# Altium schematic symbol library ICs.SchLib: 86 symbols (part 2 of 2)
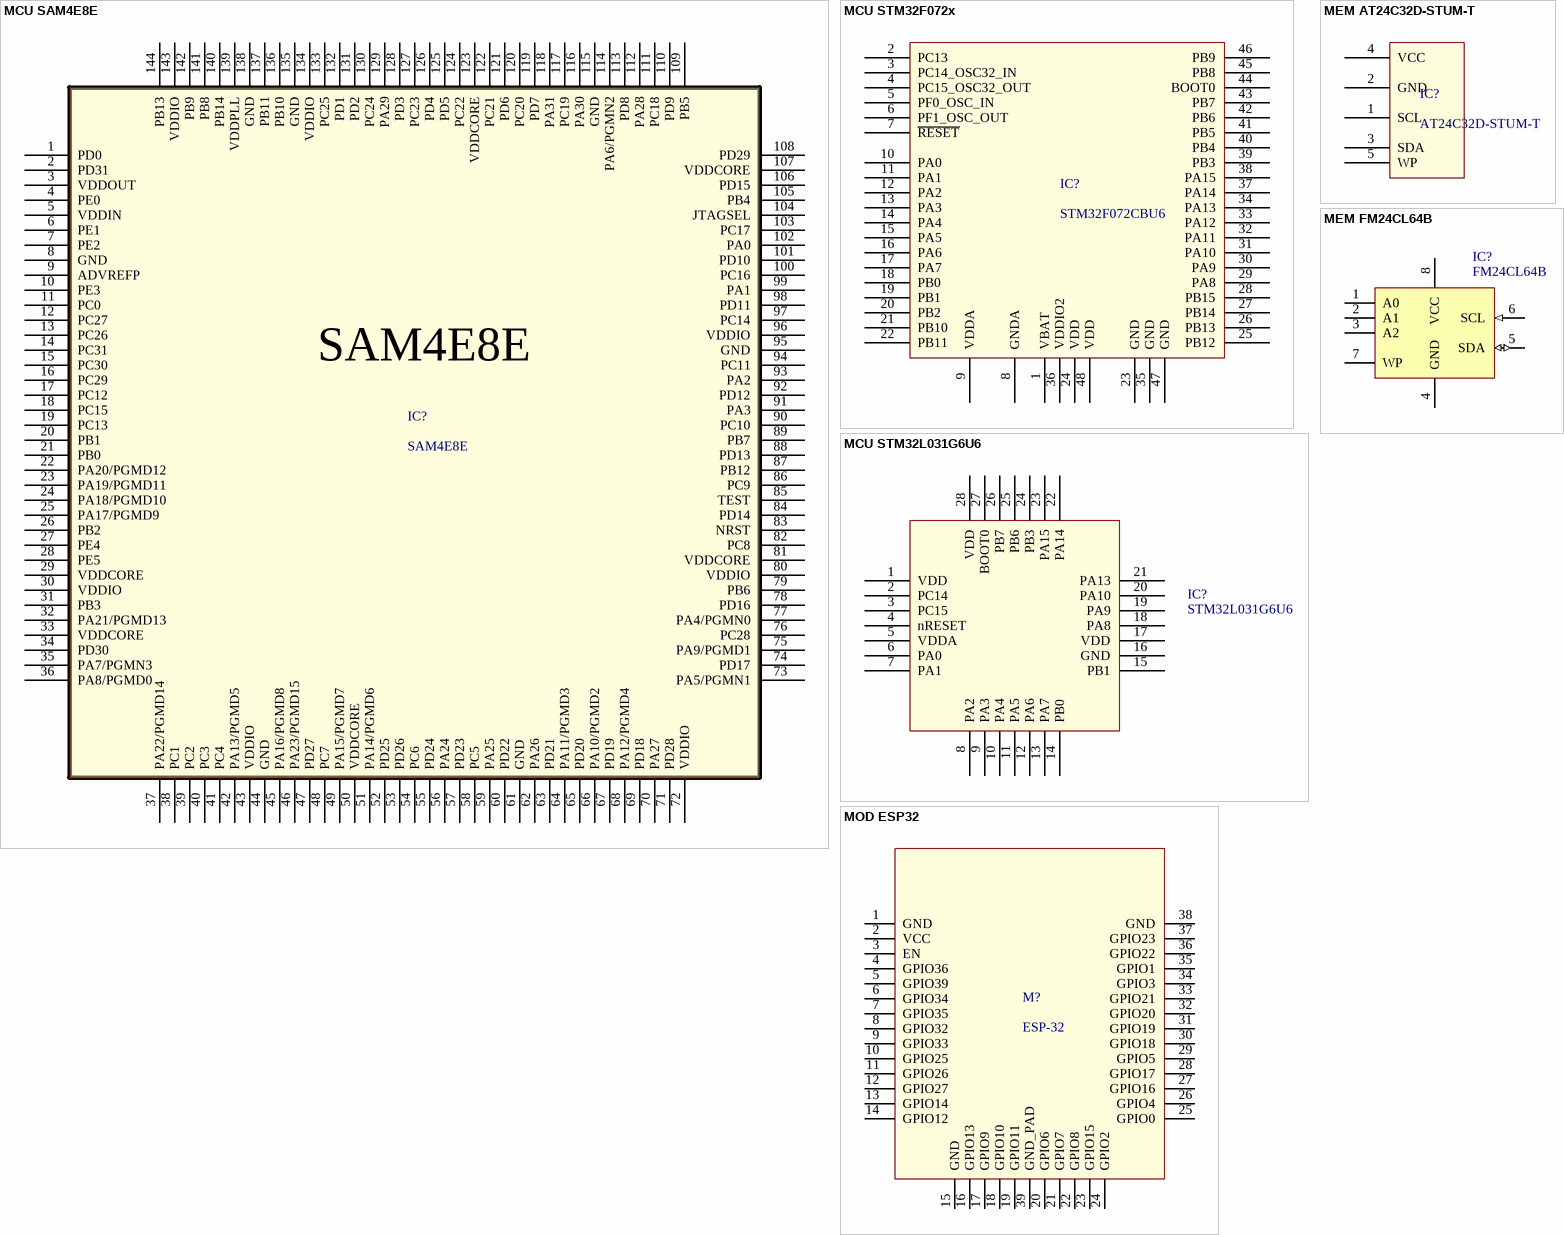
[diagram p8: symbols MCU SAM4E8E to MOD ESP32]

## MCU STM32F072x
designator IC?, comment STM32F072CBU6
MCU 32 Bit Microcontroller, USB Line, ARM Cortex-M0, 48 MHz, 128 KB, 16 KB, 48 Pins, UFQFPN; Manufacturer: STMicroelectronics; Manufacturer Part Number: STM32F072CBU6; Created by: Nils Minor; Value: STM 32 F 072 CBU6
footprint PQFN50P695X695X55_HS-49N (PQFN, 48-Leads, Body 6,95x6,95mm, Pitch 0,50mm, Thermal Pad 5,60x5,60mm, IPC Medium Density)
pins: 1 VBAT, 2 PC13, 3 PC14_OSC32_IN, 4 PC15_OSC32_OUT, 5 PF0_OSC_IN, 6 PF1_OSC_OUT, 7 ~{RESET}, 8 GNDA, 9 VDDA, 10 PA0, 11 PA1, 12 PA2, 13 PA3, 14 PA4, 15 PA5, 16 PA6, 17 PA7, 18 PB0, 19 PB1, 20 PB2, 21 PB10, 22 PB11, 23 GND, 24 VDD, 25 PB12, 26 PB13, 27 PB14, 28 PB15, 29 PA8, 30 PA9, 31 PA10, 32 PA11, 33 PA12, 34 PA13, 35 GND, 36 VDDIO2, 37 PA14, 38 PA15, 39 PB3, 40 PB4, 41 PB5, 42 PB6, 43 PB7, 44 BOOT0, 45 PB8, 46 PB9, 47 GND, 48 VDD

## MCU STM32L031G6U6
designator IC?, comment STM32L031G6U6
MCU Ultra-low-power 32-bit ARM®-based Cortex®-M0+ Microcontroller; Manufacturer: STMicroelectronics; Manufacturer Part Number: STM32L031G6U6; Created by: Nils Minor; Value: STM 32 L 031 G6U6
footprint QFN50P400X400X55-28N (QFN, 28-Leads, Body 4,00x4,00mm, Pitch 0,50mm, IPC Medium Density)
pins: 1 VDD, 2 PC14, 3 PC15, 4 nRESET, 5 VDDA, 6 PA0, 7 PA1, 8 PA2, 9 PA3, 10 PA4, 11 PA5, 12 PA6, 13 PA7, 14 PB0, 15 PB1, 16 GND, 17 VDD, 18 PA8, 19 PA9, 20 PA10, 21 PA13, 22 PA14, 23 PA15, 24 PB3, 25 PB6, 26 PB7, 27 BOOT0, 28 VDD

## MEM AT24C32D-STUM-T
designator IC?, comment AT24C32D-STUM-T
EEPROM I2C-Compatible (2-Wire) Serial 32-Kbit (4,096 x 8); Manufacturer: Microchip / Atmel; Created by: Nils Minor; Manufacturer Part Number: AT24C32D-STUM-T; Value: AT 24 C 32 D-STUM
footprint SOT23-5
pins: 1 SCL, 2 GND, 3 SDA, 4 VCC, 5 WP

## MEM FM24CL64B
designator IC?, comment FM24CL64B
F-RAM 64Kb Serial I2C 3V FRAM; Manufacturer: Cypress; Manufacturer Part Number: FM24CL64B-G; Value: FM 24 CL 64 B-G; Created by: Nils Minor
footprint SO8
pins: 1 A0, 2 A1, 3 A2, 4 GND (power), 5 SDA (io), 6 SCL (in), 7 WP, 8 VCC (power)

## MOD ESP32
designator M?, comment ESP-32
WLAN Modul; Created by: Nils Minor
footprint ESP32
pins: 1 GND, 2 VCC, 3 EN, 4 GPIO36, 5 GPIO39, 6 GPIO34, 7 GPIO35, 8 GPIO32, 9 GPIO33, 10 GPIO25, 11 GPIO26, 12 GPIO27, 13 GPIO14, 14 GPIO12, 15 GND, 16 GPIO13, 17 GPIO9, 18 GPIO10, 19 GPIO11, 20 GPIO6, 21 GPIO7, 22 GPIO8, 23 GPIO15, 24 GPIO2, 25 GPIO0, 26 GPIO4, 27 GPIO16, 28 GPIO17, 29 GPIO5, 30 GPIO18, 31 GPIO19, 32 GPIO20, 33 GPIO21, 34 GPIO3, 35 GPIO1, 36 GPIO22, 37 GPIO23, 38 GND, 39 GND_PAD

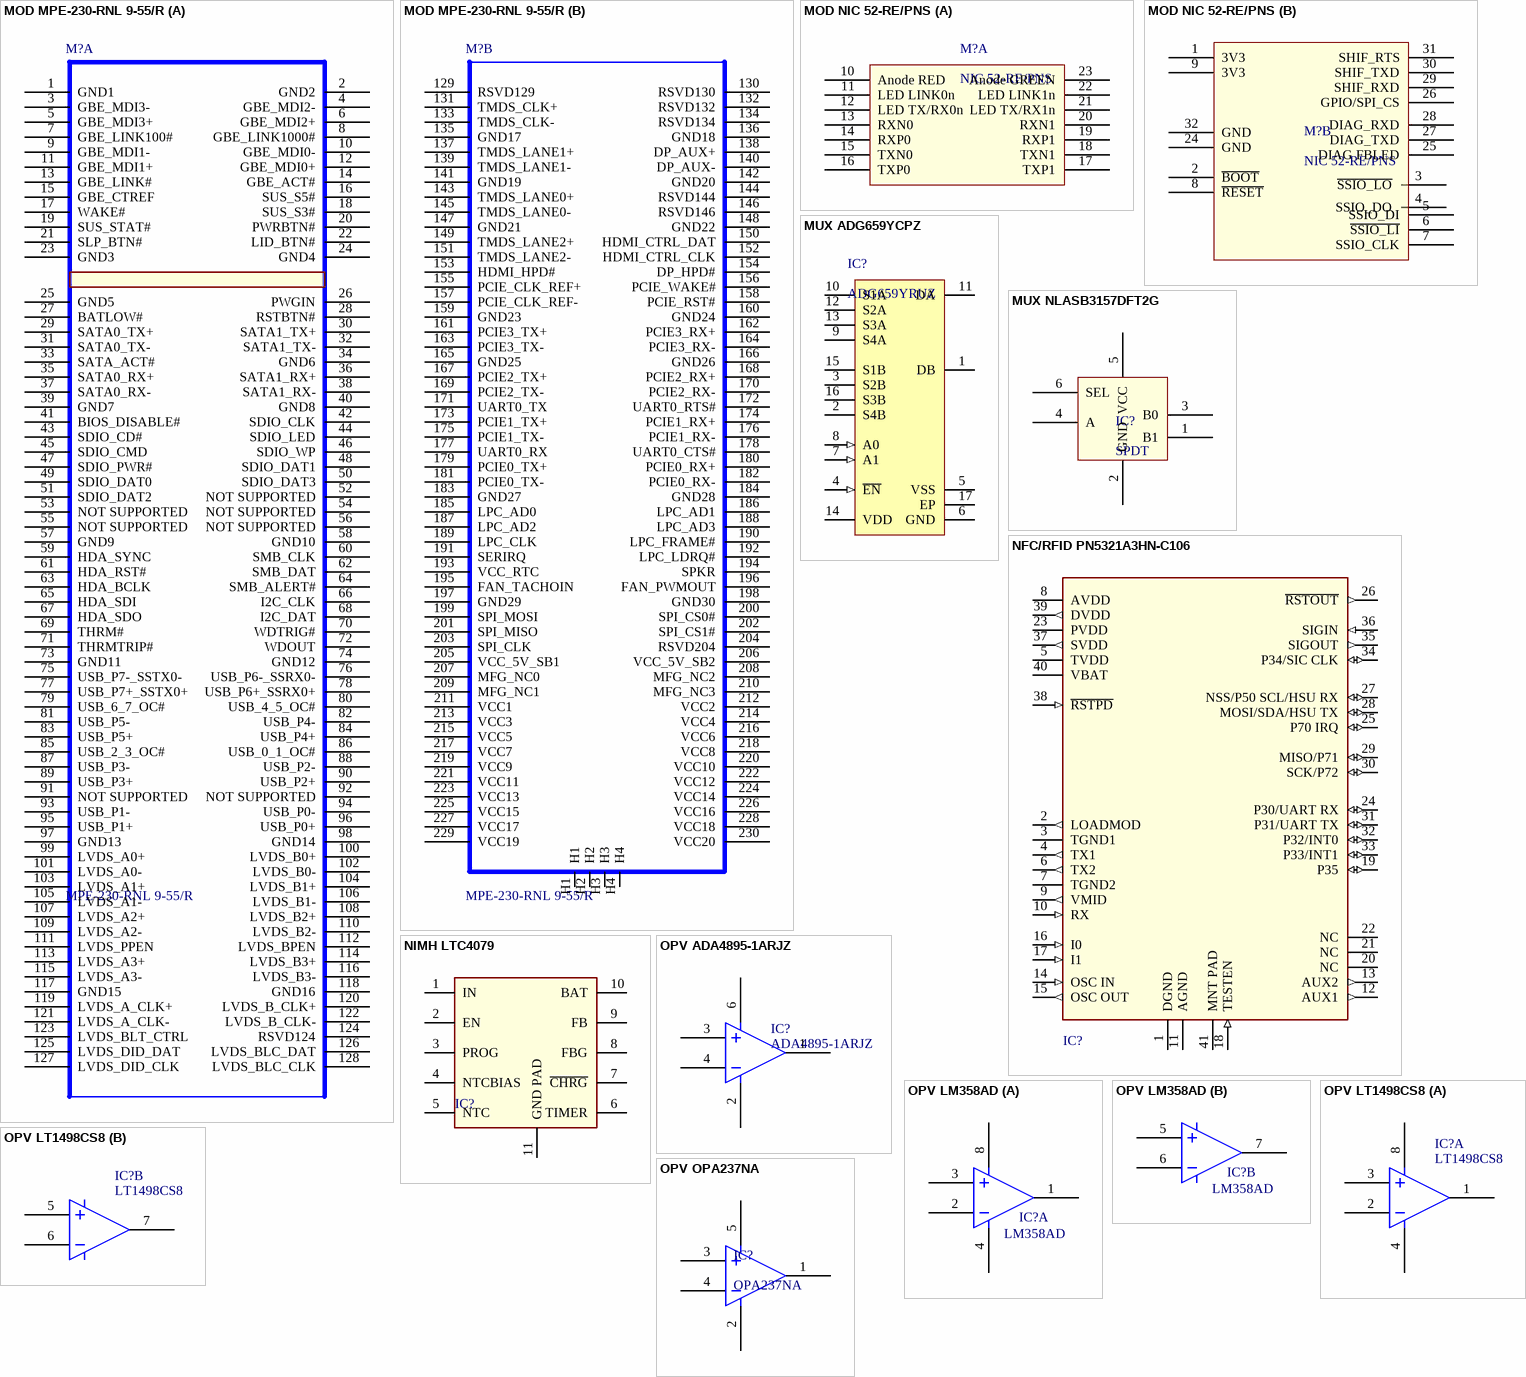
[diagram p5: symbols MOD MPE-230-RNL 9-55/R to OPV OPA237NA]

## MOD MPE-230-RNL 9-55/R
designator M?, comment MPE-230-RNL 9-55/R
Q7 Stecker mit Modul; Manufacturer: E-tec; Created by: Nils Minor; Manufacturer Part Number: MPE-230-RNL 9-55/R; Value: MPE-230-RNL 9-55
footprint Q7Con1.2 (Q7-Connector by NilsM)
part A pins: 1 GND1, 2 GND2, 3 GBE_MDI3-, 4 GBE_MDI2-, 5 GBE_MDI3+, 6 GBE_MDI2+, 7 GBE_LINK100#, 8 GBE_LINK1000#, 9 GBE_MDI1-, 10 GBE_MDI0-, 11 GBE_MDI1+, 12 GBE_MDI0+, 13 GBE_LINK#, 14 GBE_ACT#, 15 GBE_CTREF, 16 SUS_S5#, 17 WAKE#, 18 SUS_S3#, 19 SUS_STAT#, 20 PWRBTN#, 21 SLP_BTN#, 22 LID_BTN#, 23 GND3, 24 GND4, 25 GND5, 26 PWGIN, 27 BATLOW#, 28 RSTBTN#, 29 SATA0_TX+, 30 SATA1_TX+, 31 SATA0_TX-, 32 SATA1_TX-, 33 SATA_ACT#, 34 GND6, 35 SATA0_RX+, 36 SATA1_RX+, 37 SATA0_RX-, 38 SATA1_RX-, 39 GND7, 40 GND8, 41 BIOS_DISABLE#, 42 SDIO_CLK, 43 SDIO_CD#, 44 SDIO_LED, 45 SDIO_CMD, 46 SDIO_WP, 47 SDIO_PWR#, 48 SDIO_DAT1, 49 SDIO_DAT0, 50 SDIO_DAT3, 51 SDIO_DAT2, 52 NOT SUPPORTED, 53 NOT SUPPORTED, 54 NOT SUPPORTED, 55 NOT SUPPORTED, 56 NOT SUPPORTED, 57 GND9, 58 GND10, 59 HDA_SYNC, 60 SMB_CLK, 61 HDA_RST#, 62 SMB_DAT, 63 HDA_BCLK, 64 SMB_ALERT#, 65 HDA_SDI, 66 I2C_CLK, 67 HDA_SDO, 68 I2C_DAT, 69 THRM#, 70 WDTRIG#, 71 THRMTRIP#, 72 WDOUT, 73 GND11, 74 GND12, 75 USB_P7-_SSTX0-, 76 USB_P6-_SSRX0-, 77 USB_P7+_SSTX0+, 78 USB_P6+_SSRX0+, 79 USB_6_7_OC#, 80 USB_4_5_OC#, 81 USB_P5-, 82 USB_P4-, 83 USB_P5+, 84 USB_P4+, 85 USB_2_3_OC#, 86 USB_0_1_OC#, 87 USB_P3-, 88 USB_P2-, 89 USB_P3+, 90 USB_P2+, 91 NOT SUPPORTED, 92 NOT SUPPORTED, 93 USB_P1-, 94 USB_P0-, 95 USB_P1+, 96 USB_P0+, 97 GND13, 98 GND14, 99 LVDS_A0+, 100 LVDS_B0+, 101 LVDS_A0-, 102 LVDS_B0-, 103 LVDS_A1+, 104 LVDS_B1+, 105 LVDS_A1-, 106 LVDS_B1-, 107 LVDS_A2+, 108 LVDS_B2+, 109 LVDS_A2-, 110 LVDS_B2-, 111 LVDS_PPEN, 112 LVDS_BPEN, 113 LVDS_A3+, 114 LVDS_B3+, 115 LVDS_A3-, 116 LVDS_B3-, 117 GND15, 118 GND16, 119 LVDS_A_CLK+, 120 LVDS_B_CLK+, 121 LVDS_A_CLK-, 122 LVDS_B_CLK-, 123 LVDS_BLT_CTRL, 124 RSVD124, 125 LVDS_DID_DAT, 126 LVDS_BLC_DAT, 127 LVDS_DID_CLK, 128 LVDS_BLC_CLK
part B pins: 129 RSVD129, 130 RSVD130, 131 TMDS_CLK+, 132 RSVD132, 133 TMDS_CLK-, 134 RSVD134, 135 GND17, 136 GND18, 137 TMDS_LANE1+, 138 DP_AUX+, 139 TMDS_LANE1-, 140 DP_AUX-, 141 GND19, 142 GND20, 143 TMDS_LANE0+, 144 RSVD144, 145 TMDS_LANE0-, 146 RSVD146, 147 GND21, 148 GND22, 149 TMDS_LANE2+, 150 HDMI_CTRL_DAT, 151 TMDS_LANE2-, 152 HDMI_CTRL_CLK, 153 HDMI_HPD#, 154 DP_HPD#, 155 PCIE_CLK_REF+, 156 PCIE_WAKE#, 157 PCIE_CLK_REF-, 158 PCIE_RST#, 159 GND23, 160 GND24, 161 PCIE3_TX+, 162 PCIE3_RX+, 163 PCIE3_TX-, 164 PCIE3_RX-, 165 GND25, 166 GND26, 167 PCIE2_TX+, 168 PCIE2_RX+, 169 PCIE2_TX-, 170 PCIE2_RX-, 171 UART0_TX, 172 UART0_RTS#, 173 PCIE1_TX+, 174 PCIE1_RX+, 175 PCIE1_TX-, 176 PCIE1_RX-, 177 UART0_RX, 178 UART0_CTS#, 179 PCIE0_TX+, 180 PCIE0_RX+, 181 PCIE0_TX-, 182 PCIE0_RX-, 183 GND27, 184 GND28, 185 LPC_AD0, 186 LPC_AD1, 187 LPC_AD2, 188 LPC_AD3, 189 LPC_CLK, 190 LPC_FRAME#, 191 SERIRQ, 192 LPC_LDRQ#, 193 VCC_RTC, 194 SPKR, 195 FAN_TACHOIN, 196 FAN_PWMOUT, 197 GND29, 198 GND30, 199 SPI_MOSI, 200 SPI_CS0#, 201 SPI_MISO, 202 SPI_CS1#, 203 SPI_CLK, 204 RSVD204, 205 VCC_5V_SB1, 206 VCC_5V_SB2, 207 MFG_NC0, 208 MFG_NC2, 209 MFG_NC1, 210 MFG_NC3, 211 VCC1, 212 VCC2, 213 VCC3, 214 VCC4, 215 VCC5, 216 VCC6, 217 VCC7, 218 VCC8, 219 VCC9, 220 VCC10, 221 VCC11, 222 VCC12, 223 VCC13, 224 VCC14, 225 VCC15, 226 VCC16, 227 VCC17, 228 VCC18, 229 VCC19, 230 VCC20, H1, H2, H3, H4

## MOD NIC 52-RE/PNS
designator M?, comment NIC 52-RE/PNS
UART / MODBUS / ProfiBUS Modul der Firma Hilscher; Created by: Nils Minor; Manufacturer: Hilscher; Manufacturer Part Number: NIC 52-RE/PNS; Value: NIC 52-RE/PNS
footprint DIP-32/E12.9 (DIP, Plastic, 32-Pin, Row Spacing 15.24 mm, Pitch 2.54 mm)
part A pins: 10 Anode RED, 11 LED LINK0n, 12 LED TX/RX0n, 13 RXN0, 14 RXP0, 15 TXN0, 16 TXP0, 17 TXP1, 18 TXN1, 19 RXP1, 20 RXN1, 21 LED TX/RX1n, 22 LED LINK1n, 23 Anode GREEN
part B pins: 1 3V3, 2 ~{BOOT}, 3 ~{SSIO_LO}, 4 SSIO_DO, 5 SSIO_DI, 6 ~{SSIO_LI}, 7 SSIO_CLK, 8 ~{RESET}, 9 3V3, 24 GND, 25 DIAG FBLED, 26 GPIO/SPI_CS, 27 DIAG_TXD, 28 DIAG_RXD, 29 SHIF_RXD, 30 SHIF_TXD, 31 SHIF_RTS, 32 GND

## MUX ADG659YCPZ
designator IC?, comment ADG659YRUZ
3 V / 5 V / +/-5 V CMOS 4-Channel Analog Multiplexer, -40 to 125 degC, 16-pin SOP (RU-16), Reel; Manufacturer: Analog Devices; Manufacturer Part Number: ADG659YCPZ-REEL7; Created by: Nils Minor
footprint CP-16-4_L (QFN, 16-Leads, Body 4x4mm, Pitch 0.65mm, Thermal Pad 2.1x2.1mm, IPC High Density)
pins: 1 DB "Drain Terminal. May be an input or output.", 2 S4B "Source Terminal. May be an input or output", 3 S2B "Source Terminal. May be an input or output", 4 ~{EN} (in) "Active Low Digital Input. When high, device is disabled and all switches are OFF. When low, AX logic inputs determine ON switch.", 5 VSS (power) "Most Negative Power Supply Potential.", 6 GND (power) "Ground (0 V) Reference.", 7 A1 (in) "Logic Control Input", 8 A0 (in) "Logic Control Input", 9 S4A "Source Terminal. May be an input or output", 10 S1A "Source Terminal. May be an input or output", 11 DA "Drain Terminal. May be an input or output.", 12 S2A "Source Terminal. May be an input or output", 13 S3A "Source Terminal. May be an input or output", 14 VDD (power) "Most Positive Power Supply Potential.", 15 S1B "Source Terminal. May be an input or output", 16 S3B "Source Terminal. May be an input or output", 17 EP "Exposed pad."

## MUX NLASB3157DFT2G
designator IC?, comment SPDT
Analogschalter IC 2:1 Multiplexer -55 to 125deg C / 7 Ohms; Manufacturer: On Semiconductor; Manufacturer Part Number: NLASB3157DFT2G; Created by: Nils Minor
footprint SC-88-6 (SOT23, 6-Leads, Body 2.2x1.35mm, Pitch 0.65mm)
pins: 1 B1, 2 GND, 3 B0, 4 A, 5 VCC, 6 SEL

## NFC/RFID PN5321A3HN-C106
designator IC?
IC RFID Reader/Transponder IC 13.56MHz FeliCa, ISO 14443, MIFARE, NFC I²C, SPI, UART 2.7 V ~ 5.5 V 40-VFQFN Exposed Pad; Manufacturer: NXP; Manufacturer Part Number: PN5321A3HN/C106;55; Value: NFC/RFID Reader; Created by: Nils Minor
footprint NXP_SOT618-1_0
pins: 1 DGND (power), 2 LOADMOD (out), 3 TGND1 (power), 4 TX1 (out), 5 TVDD (power), 6 TX2 (out), 7 TGND2 (power), 8 AVDD (power), 9 VMID (out), 10 RX (in), 11 AGND (power), 12 AUX1 (out), 13 AUX2 (out), 14 OSC IN (in), 15 OSC OUT (out), 16 I0 (in), 17 I1 (in), 18 TESTEN (in), 19 P35 (io), 20 NC, 21 NC, 22 NC, 23 PVDD (power), 24 P30/UART RX (io), 25 P70 IRQ (io), 26 ~{RSTOUT} (out), 27 NSS/P50 SCL/HSU RX (io), 28 MOSI/SDA/HSU TX (io), 29 MISO/P71 (io), 30 SCK/P72 (io), 31 P31/UART TX (io), 32 P32/INT0 (io), 33 P33/INT1 (io), 34 P34/SIC CLK (io), 35 SIGOUT (out), 36 SIGIN (in), 37 SVDD (out), 38 ~{RSTPD} (in), 39 DVDD (out), 40 VBAT (power), 41 MNT PAD

## NIMH LTC4079
designator IC?
IC BATT CHRGR MULTI-CHEM 10DFN; Manufacturer: Analog Devices; Manufacturer Part Number: LTC4079EDD#PBF; Created by: Nils Minor
footprint LTC4079
pins: 1 IN, 2 EN, 3 PROG, 4 NTCBIAS, 5 NTC, 6 TIMER, 7 ~{CHRG}, 8 FBG, 9 FB, 10 BAT, 11 GND PAD

## OPV ADA4895-1ARJZ
designator IC?, comment ADA4895-1ARJZ
Mehrzweck Verstärker 1 Schaltkreis Rail-to-Rail SOT-23-6; Manufacturer: Analog Devices; Manufacturer Part Number: ADA4895-1ARJZ-R7; Created by: Nils Minor
footprint SOT236
pins: 1, 2 V-, 3, 4, 6 V+

## OPV LM358AD
designator IC?, comment LM358AD
Operationsverstärker Dual SO-8; Manufacturer: Texas Instruments (TI); Created by: Nils Minor; Manufacturer Part Number: LM358AD; Value: LM 358 AD
footprint SO8
part A pins: 1, 2, 3, 4, 8
part B pins: 5, 6, 7

## OPV LT1498CS8
designator IC?, comment LT1498CS8
Präzisionsverstärker 10MHz 5V/us Dual R-to-R OA; Manufacturer: Analog Devices; Manufacturer Part Number: LT1498CS8#PBF; Created by: Nils Minor
footprint SO8
part A pins: 1, 2, 3, 4 V-, 8 V+
part B pins: 5, 6, 7

## OPV OPA237NA
designator IC?, comment OPA237NA
Operationsverstärker  GP 1.5MHZ SOT23-5; Manufacturer: Texas Instruments (TI); Manufacturer Part Number: OPA237NA/250; Created by: Nils Minor; Value: OPA 237 NA
footprint SOT23-5L
pins: 1, 2, 3, 4, 5

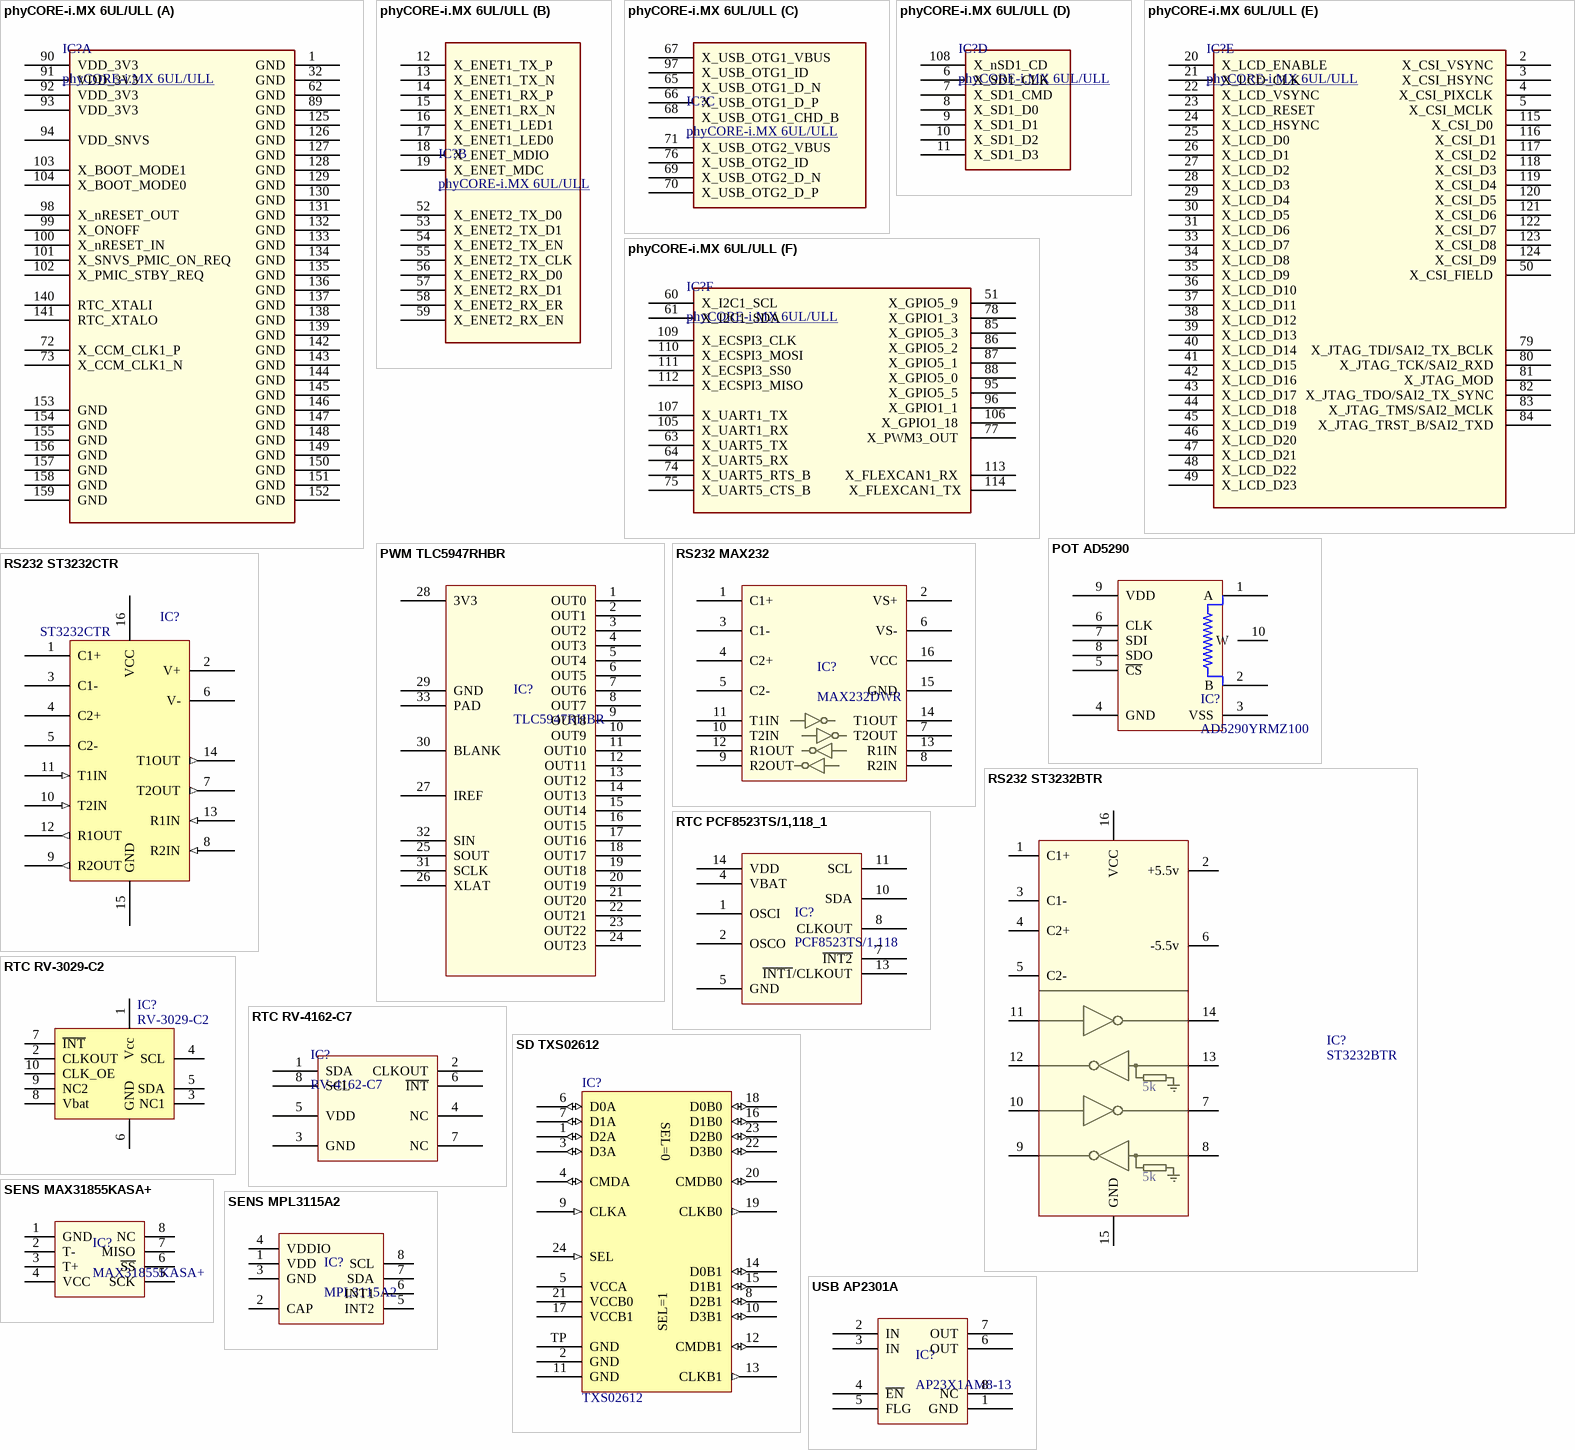
[diagram p6: symbols phyCORE-i.MX 6UL/ULL to USB AP2301A]

## phyCORE-i.MX 6UL/ULL
designator IC?
footprint phytec-PCL-063-Basis-35x35 (PCL-063 Basisl MS  Tjun)
part A pins: 1 GND, 32 GND, 62 GND, 72 X_CCM_CLK1_P , 73 X_CCM_CLK1_N , 89 GND, 90 VDD_3V3 , 91 VDD_3V3 , 92 VDD_3V3 , 93 VDD_3V3 , 94 VDD_SNVS , 98 X_nRESET_OUT , 99 X_ONOFF , 100 X_nRESET_IN , 101 X_SNVS_PMIC_ON_REQ , 102 X_PMIC_STBY_REQ , 103 X_BOOT_MODE1 , 104 X_BOOT_MODE0 , 125 GND, 126 GND, 127 GND, 128 GND, 129 GND, 130 GND, 131 GND, 132 GND, 133 GND, 134 GND, 135 GND, 136 GND, 137 GND, 138 GND, 139 GND, 140 RTC_XTALI , 141 RTC_XTALO , 142 GND, 143 GND, 144 GND, 145 GND, 146 GND, 147 GND, 148 GND, 149 GND, 150 GND, 151 GND, 152 GND, 153 GND, 154 GND, 155 GND, 156 GND, 157 GND, 158 GND, 159 GND
part B pins: 12 X_ENET1_TX_P, 13 X_ENET1_TX_N, 14 X_ENET1_RX_P, 15 X_ENET1_RX_N, 16 X_ENET1_LED1 , 17 X_ENET1_LED0, 18 X_ENET_MDIO , 19 X_ENET_MDC, 52 X_ENET2_TX_D0 , 53 X_ENET2_TX_D1 , 54 X_ENET2_TX_EN , 55 X_ENET2_TX_CLK , 56 X_ENET2_RX_D0 , 57 X_ENET2_RX_D1 , 58 X_ENET2_RX_ER , 59 X_ENET2_RX_EN 
part C pins: 65 X_USB_OTG1_D_N, 66 X_USB_OTG1_D_P, 67 X_USB_OTG1_VBUS , 68 X_USB_OTG1_CHD_B , 69 X_USB_OTG2_D_N, 70 X_USB_OTG2_D_P, 71 X_USB_OTG2_VBUS , 76 X_USB_OTG2_ID , 97 X_USB_OTG1_ID 
part D pins: 6 X_SD1_CLK , 7 X_SD1_CMD , 8 X_SD1_D0 , 9 X_SD1_D1 , 10 X_SD1_D2 , 11 X_SD1_D3 , 108 X_nSD1_CD 
part E pins: 2 X_CSI_VSYNC , 3 X_CSI_HSYNC , 4 X_CSI_PIXCLK , 5 X_CSI_MCLK , 20 X_LCD_ENABLE , 21 X_LCD_CLK , 22 X_LCD_VSYNC , 23 X_LCD_RESET , 24 X_LCD_HSYNC , 25 X_LCD_D0 , 26 X_LCD_D1, 27 X_LCD_D2, 28 X_LCD_D3, 29 X_LCD_D4, 30 X_LCD_D5, 31 X_LCD_D6, 33 X_LCD_D7, 34 X_LCD_D8, 35 X_LCD_D9, 36 X_LCD_D10, 37 X_LCD_D11, 38 X_LCD_D12, 39 X_LCD_D13, 40 X_LCD_D14, 41 X_LCD_D15, 42 X_LCD_D16, 43 X_LCD_D17, 44 X_LCD_D18 , 45 X_LCD_D19 , 46 X_LCD_D20, 47 X_LCD_D21, 48 X_LCD_D22, 49 X_LCD_D23, 50 X_CSI_FIELD , 79 X_JTAG_TDI/SAI2_TX_BCLK , 80 X_JTAG_TCK/SAI2_RXD , 81 X_JTAG_MOD , 82 X_JTAG_TDO/SAI2_TX_SYNC , 83 X_JTAG_TMS/SAI2_MCLK , 84 X_JTAG_TRST_B/SAI2_TXD , 115 X_CSI_D0 , 116 X_CSI_D1, 117 X_CSI_D2, 118 X_CSI_D3, 119 X_CSI_D4, 120 X_CSI_D5, 121 X_CSI_D6, 122 X_CSI_D7, 123 X_CSI_D8, 124 X_CSI_D9
part F pins: 51 X_GPIO5_9 , 60 X_I2C1_SCL , 61 X_I2C1_SDA , 63 X_UART5_TX , 64 X_UART5_RX, 74 X_UART5_RTS_B , 75 X_UART5_CTS_B , 77 X_PWM3_OUT , 78 X_GPIO1_3 , 85 X_GPIO5_3 , 86 X_GPIO5_2 , 87 X_GPIO5_1 , 88 X_GPIO5_0 , 95 X_GPIO5_5 , 96 X_GPIO1_1 , 105 X_UART1_RX , 106 X_GPIO1_18 , 107 X_UART1_TX , 109 X_ECSPI3_CLK , 110 X_ECSPI3_MOSI , 111 X_ECSPI3_SS0 , 112 X_ECSPI3_MISO , 113 X_FLEXCAN1_RX , 114 X_FLEXCAN1_TX

## POT AD5290
designator IC?, comment AD5290YRMZ100
Digital Potentiometer 100kOhm 256POS Volatile Automotive 10-Pin MSOP Tube; Manufacturer: Anaog Devices; Created by: Nils Minor; Manufacturer Part Number: AD5290YRMZ100
footprint MSOP-10
pins: 1 A, 2 B, 3 VSS, 4 GND, 5 ~{CS}, 6 CLK, 7 SDI, 8 SDO, 9 VDD, 10 W

## PWM TLC5947RHBR
designator IC?, comment TLC5947RHBR
LED-Beleuchtungstreiber 24Ch 12B PWM LED driver; Manufacturer: Texas Instruments (TI); Manufacturer Part Number: TLC5947RHBR; Created by: Nils Minor; Value: TLC 5947 RHB
footprint HVQFN32
pins: 1 OUT0, 2 OUT1, 3 OUT2, 4 OUT3, 5 OUT4, 6 OUT5, 7 OUT6, 8 OUT7, 9 OUT8, 10 OUT9, 11 OUT10, 12 OUT11, 13 OUT12, 14 OUT13, 15 OUT14, 16 OUT15, 17 OUT16, 18 OUT17, 19 OUT18, 20 OUT19, 21 OUT20, 22 OUT21, 23 OUT22, 24 OUT23, 25 SOUT, 26 XLAT, 27 IREF, 28 3V3, 29 GND, 30 BLANK, 31 SCLK, 32 SIN, 33 PAD

## RS232 MAX232
designator IC?, comment MAX232DWR
UART zu RS232 Levelshifter; Manufacturer: Maxim; Created by: Nils Minor; Manufacturer Part Number: MAX232DW; Value: MAX 232 DW
footprint SO-J16/C9.4 (SOJ; 14 Leads; Body Width 10.16 mm; Pitch 1.27 mm)
pins: 1 C1+, 2 VS+, 3 C1-, 4 C2+, 5 C2-, 6 VS-, 7 T2OUT, 8 R2IN, 9 R2OUT, 10 T2IN, 11 T1IN, 12 R1OUT, 13 R1IN, 14 T1OUT, 15 GND, 16 VCC

## RS232 ST3232BTR
designator IC?, comment ST3232BTR
UART zu RS232 Levelshifter; Manufacturer: STMicroelectronics; Created by: Nils Minor; Manufacturer Part Number: ST3232BTR; Value: ST 3232 BT
footprint TSSOP16
pins: 1 C1+, 2 +5.5v, 3 C1-, 4 C2+, 5 C2-, 6 -5.5v, 7, 8, 9, 10, 11, 12, 13, 14, 15 GND, 16 VCC
text: 5k

## RS232 ST3232CTR
designator IC?, comment ST3232CTR
UART zu RS232 Levelshifter; Manufacturer: STMicroelectronics; Created by: Nils Minor; Manufacturer Part Number: ST3232CTR; Value: ST 3232 CT
footprint TSSOP16
pins: 1 C1+, 2 V+, 3 C1-, 4 C2+, 5 C2-, 6 V-, 7 T2OUT (out), 8 R2IN (in), 9 R2OUT (out), 10 T2IN (in), 11 T1IN (in), 12 R1OUT (out), 13 R1IN (in), 14 T1OUT (out), 15 GND (power), 16 VCC (power)

## RTC PCF8523TS/1,118_1
designator IC?, comment PCF8523TS/1,118
IC RTC + CALENDAR; Manufacturer: NXP Semiconductors; Manufacturer Part Number: PCF8523TS/1,118; Created by: Nils Minor; Value: PCF 8523 TS/1
footprint TSSOP14 (Shrink Small Outline; 14 Leads; Body Width 4.4 mm; Pitch 0.65 mm)
pins: 1 OSCI, 2 OSCO, 4 VBAT, 5 GND, 7 ~{INT2}, 8 CLKOUT, 10 SDA, 11 SCL, 13 ~{INT1}/CLKOUT, 14 VDD

## RTC RV-3029-C2
designator IC?, comment RV-3029-C2
RTC Micro Crystal; Manufacturer Part Number: RV-3029-C2-STD-025; Value: RV-3029-C2-STD-025; Created by: Nils Minor; Manufacturer: Micro Crystal
footprint RV-3029-C2
pins: 1 Vcc, 2 CLKOUT, 3 NC1, 4 SCL, 5 SDA, 6 GND, 7 ~{INT}, 8 Vbat, 9 NC2, 10 CLK_OE

## RTC RV-4162-C7
designator IC?, comment RV-4162-C7
Real Time Clock 32.768 kHz +/-20 PPM I2C -40/+85C; Manufacturer: Micro Crystal; Manufacturer Part Number: RV-4162-C7-32.768kHz-20PPM-TA-QC; Created by: Nils Minor
footprint RV-4162-C7
pins: 1 SDA, 2 CLKOUT, 3 GND, 4 NC, 5 VDD, 6 ~{INT}, 7 NC, 8 SCL

## SD TXS02612
designator IC?, comment TXS02612
Schnittstelle - I/O-Erweiterer SDIO Port Expander; Manufacturer: Texas Instruments Inc.; Manufacturer Part Number: TXS02612RTWR; Created by: Nils Minor
footprint QFN50P400X400X80-24N
pins: 1 D2A (io), 2 GND, 3 D3A (io), 4 CMDA (io), 5 VCCA (power), 6 D0A (io), 7 D1A (io), 8 D2B1 (io), 9 CLKA (in), 10 D3B1 (io), 11 GND, 12 CMDB1 (io), 13 CLKB1 (out), 14 D0B1 (io), 15 D1B1 (io), 16 D1B0 (io), 17 VCCB1 (power), 18 D0B0 (io), 19 CLKB0 (out), 20 CMDB0 (io), 21 VCCB0 (power), 22 D3B0 (io), 23 D2B0 (io), 24 SEL (in), TP GND
text: SEL=0; SEL=1

## SENS MAX31855KASA+
designator IC?, comment MAX31855KASA+
Sensor-Schnittstelle Thermocouple To Digital Converter; Manufacturer: Maxim; Manufacturer Part Number: MAX31855KASA+; Created by: Nils Minor; Value: MAX 31855 KASA +
footprint SO8
pins: 1 GND, 2 T-, 3 T+, 4 VCC, 5 SCK, 6 ~{SS}, 7 MISO, 8 NC

## SENS MPL3115A2
designator IC?, comment MPL3115A2
Drucksensoren für Plattenmontage I2C; Manufacturer: NXP / Freescale; Manufacturer Part Number: MPL3115A2; Created by: Nils Minor; Value: MPL 3115 A2
footprint MPL3115A2
pins: 1 VDD, 2 CAP, 3 GND, 4 VDDIO, 5 INT2, 6 INT1, 7 SDA, 8 SCL

## USB AP2301A
designator IC?, comment AP23X1AM8-13
USB Leistungsschalter 2.0A; Manufacturer: Diodes; Value: AP 2301 A M8; Manufacturer Part Number: AP23X1AM8-13; Created by: Nils Minor
footprint 8 - LEAD MSOP (ADP1715ARMZ-1.5-R7)
pins: 1 GND, 2 IN, 3 IN, 4 ~{EN}, 5 FLG, 6 OUT, 7 OUT, 8 NC

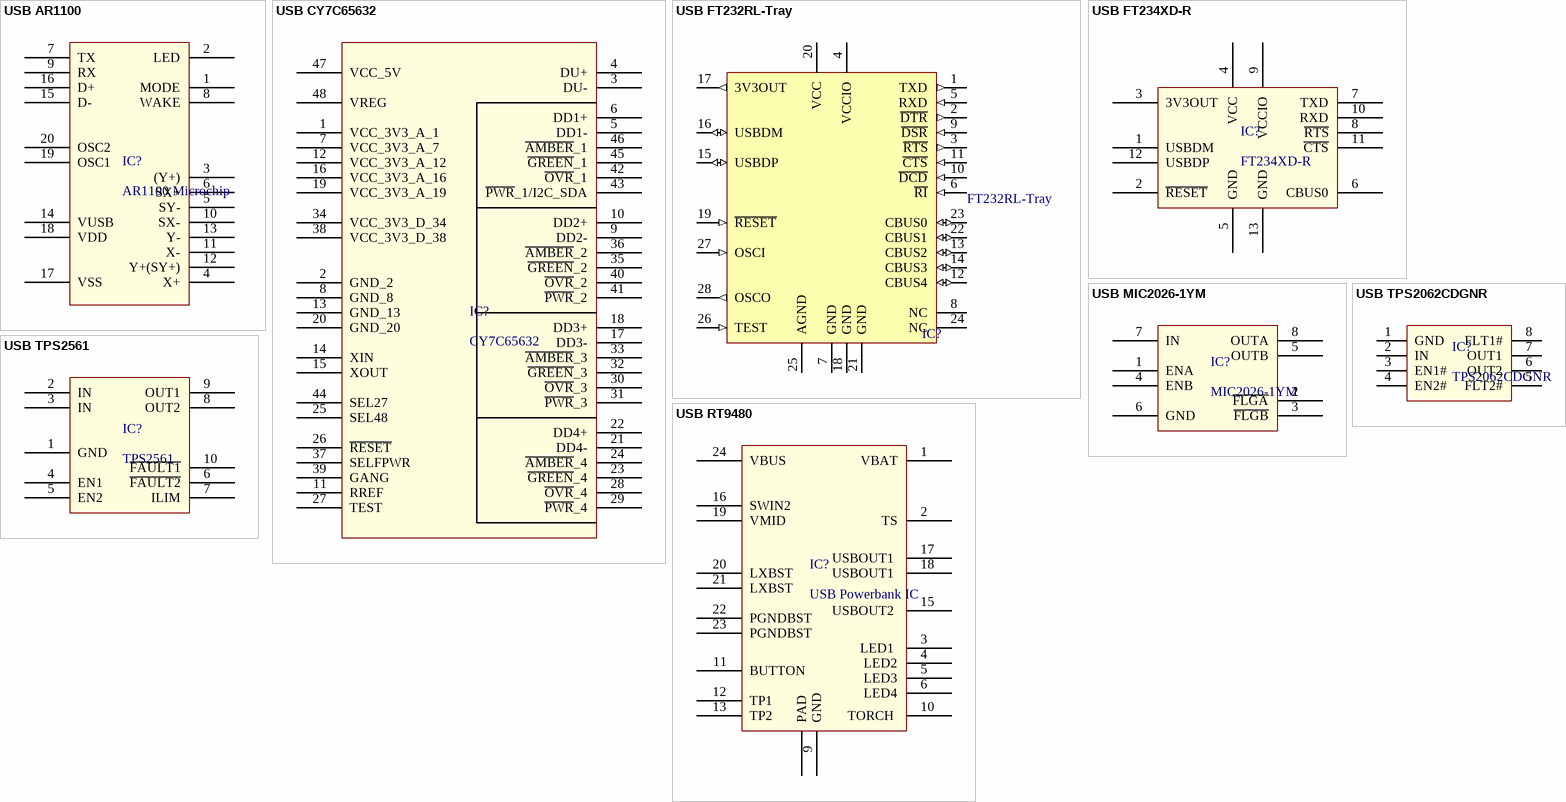
[diagram p7: symbols USB AR1100 to USB TPS2561]

## USB AR1100
designator IC?, comment AR1100 Microchip
Resistive-Touch auf USB; Manufacturer Part Number: AR1100-I/MQ; Value: AR 1100-I/MQ; Manufacturer: Microchip; Created by: Nils Minor
footprint AR1100 (Resistiver-Touch auf USB Microchip)
pins: 1 MODE, 2 LED, 3 (Y+), 4 X+, 5 SY-, 6 SX+, 7 TX, 8 WAKE, 9 RX, 10 SX-, 11 X-, 12 Y+(SY+), 13 Y-, 14 VUSB, 15 D-, 16 D+, 17 VSS, 18 VDD, 19 OSC1, 20 OSC2

## USB CY7C65632
designator IC?, comment CY7C65632
USB-IC-Schnittstelle USB High Speed Hub 4 Ports; Manufacturer: Cypress; Manufacturer Part Number: CY7C65632-28LTXC; Value: CY 7 C 65632-28 LTXC; Created by: Nils Minor
footprint PT48_N (48-Pin Thin Quad Flat Pack 0.5 mm Pitch, IPC Medium Density)
pins: 1 VCC_3V3_A_1, 2 GND_2, 3 DU-, 4 DU+, 5 DD1-, 6 DD1+, 7 VCC_3V3_A_7, 8 GND_8, 9 DD2-, 10 DD2+, 11 RREF, 12 VCC_3V3_A_12, 13 GND_13, 14 XIN, 15 XOUT, 16 VCC_3V3_A_16, 17 DD3-, 18 DD3+, 19 VCC_3V3_A_19, 20 GND_20, 21 DD4-, 22 DD4+, 23 ~{GREEN}_4, 24 ~{AMBER}_4, 25 SEL48, 26 ~{RESET}, 27 TEST, 28 ~{OVR}_4, 29 ~{PWR}_4, 30 ~{OVR}_3, 31 ~{PWR}_3, 32 ~{GREEN}_3, 33 ~{AMBER}_3, 34 VCC_3V3_D_34, 35 ~{GREEN}_2, 36 ~{AMBER}_2, 37 SELFPWR, 38 VCC_3V3_D_38, 39 GANG, 40 ~{OVR}_2, 41 ~{PWR}_2, 42 ~{OVR}_1, 43 ~{PWR}_1/I2C_SDA, 44 SEL27, 45 ~{GREEN}_1, 46 ~{AMBER}_1, 47 VCC_5V, 48 VREG

## USB FT232RL-Tray
designator IC?, comment FT232RL-Tray
USB UART Asynchronous Serial Data Transfer Chip, SSOP-28, Tray; Manufacturer: Future Technology Devices International (FTDI); Created by: Nils Minor; Manufacturer Part Number: FT232RL; Value: FT 232 RL
footprint SSOP-28_L (SOP, 28-Leads, Body 10.2x5.3mm, Pitch 0.65mm, IPC High Density)
pins: 1 TXD (out), 2 ~{DTR} (out), 3 ~{RTS} (out), 4 VCCIO (power), 5 RXD (in), 6 ~{RI} (in), 7 GND (power), 8 NC, 9 ~{DSR} (in), 10 ~{DCD} (in), 11 ~{CTS} (in), 12 CBUS4 (io), 13 CBUS2 (io), 14 CBUS3 (io), 15 USBDP (io), 16 USBDM (io), 17 3V3OUT (out), 18 GND (power), 19 ~{RESET} (in), 20 VCC (power), 21 GND (power), 22 CBUS1 (io), 23 CBUS0 (io), 24 NC, 25 AGND (power), 26 TEST (in), 27 OSCI (in), 28 OSCO (out)

## USB FT234XD-R
designator IC?, comment FT234XD-R
USB zu UART Wandler; Manufacturer: Future Technology Devices International (FTDI); Manufacturer Part Number: FT234XD-R; Created by: Nils Minor; Value: FT 234 XD
footprint WDFN 12 (3x3 WDFN 12)
pins: 1 USBDM, 2 ~{RESET}, 3 3V3OUT, 4 VCC, 5 GND, 6 CBUS0, 7 TXD, 8 ~{RTS}, 9 VCCIO, 10 RXD, 11 ~{CTS}, 12 USBDP, 13 GND

## USB MIC2026-1YM
designator IC?, comment MIC2026-1YM
USB Leistungsschalter 900mA; Manufacturer: Microchip Micrel; Manufacturer Part Number: MIC2026-1YM; Created by: Nils Minor; Value: MIC 2026-1 YM
footprint SO8
pins: 1 ENA, 2 ~{FLGA}, 3 ~{FLGB}, 4 ENB, 5 OUTB, 6 GND, 7 IN, 8 OUTA

## USB RT9480
designator IC?, comment USB Powerbank IC
Power bank controller IC; Manufacturer: Richtek USA; Manufacturer Part Number: RT9480GQW-AA03; Value: RT9480GQW-AA03; Created by: Nils Minor
footprint QFN24_4X4_PAD2_5X2_5
pins: 1 VBAT, 2 TS, 3 LED1 , 4 LED2, 5 LED3, 6 LED4, 9 GND, 10 TORCH , 11 BUTTON , 12 TP1 , 13 TP2, 15 USBOUT2 , 16 SWIN2 , 17 USBOUT1 , 18 USBOUT1 , 19 VMID , 20 LXBST , 21 LXBST , 22 PGNDBST , 23 PGNDBST , 24 VBUS , PAD

## USB TPS2062CDGNR
designator IC?, comment TPS2062CDGNR
USB Leistungsschalter  5.5V 1.61A; Manufacturer: Texas Instruments (TI); Manufacturer Part Number: TPS2062CDGNR; Created by: Nils Minor; Value: TPS 2062 C DGN
footprint MSOP8
pins: 1 GND, 2 IN, 3 EN1#, 4 EN2#, 5 FLT2#, 6 OUT2, 7 OUT1, 8 FLT1#

## USB TPS2561
designator IC?, comment TPS2561
IC PWR DIST SWITCH SGL 8SOIC; Manufacturer: Texas Instruments (TI); Manufacturer Part Number: TPS2020IDRQ1; Value: TPS 2020 IDRQ1; Created by: Nils Minor
footprint PVSON-10
pins: 1 GND, 2 IN, 3 IN, 4 EN1, 5 EN2, 6 ~{FAULT2}, 7 ILIM, 8 OUT2, 9 OUT1, 10 ~{FAULT1}